# EAGLE library part GY-63 (library imu)
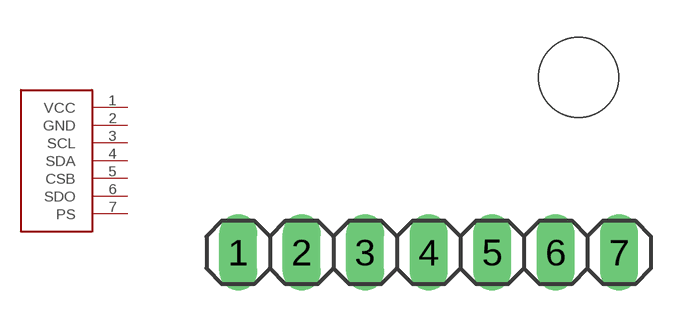
[diagram p0: symbol with the pads of BURO; footprint BURO]

Designator prefix -

## GY-63  [BURO]
1  VCC
2  GND
3  SCL
4  SDA
5  CSB
6  SDO
7  PS

## Footprint BURO (pad centres in mm)
drill 1.016 long: 1 -7.62,0; 2 -5.08,0; 3 -2.54,0; 4 0,0; 5 2.54,0; 6 5.08,0; 7 7.62,0
hole 3.2 at 6,7